# Altium footprint library G103 Rev4.2E.PcbLib: 64 footprints (part 3 of 4)
Each footprint in its own frame and in the unit in brackets; x right, y up, seen from the top. Pads: shape width x height; smd on the part's side, far side on the other; paste and mask are expansions set on the pad; w line width, h text height; cw(c..) or ccw(c..) is an arc to the next point about the centre after c.
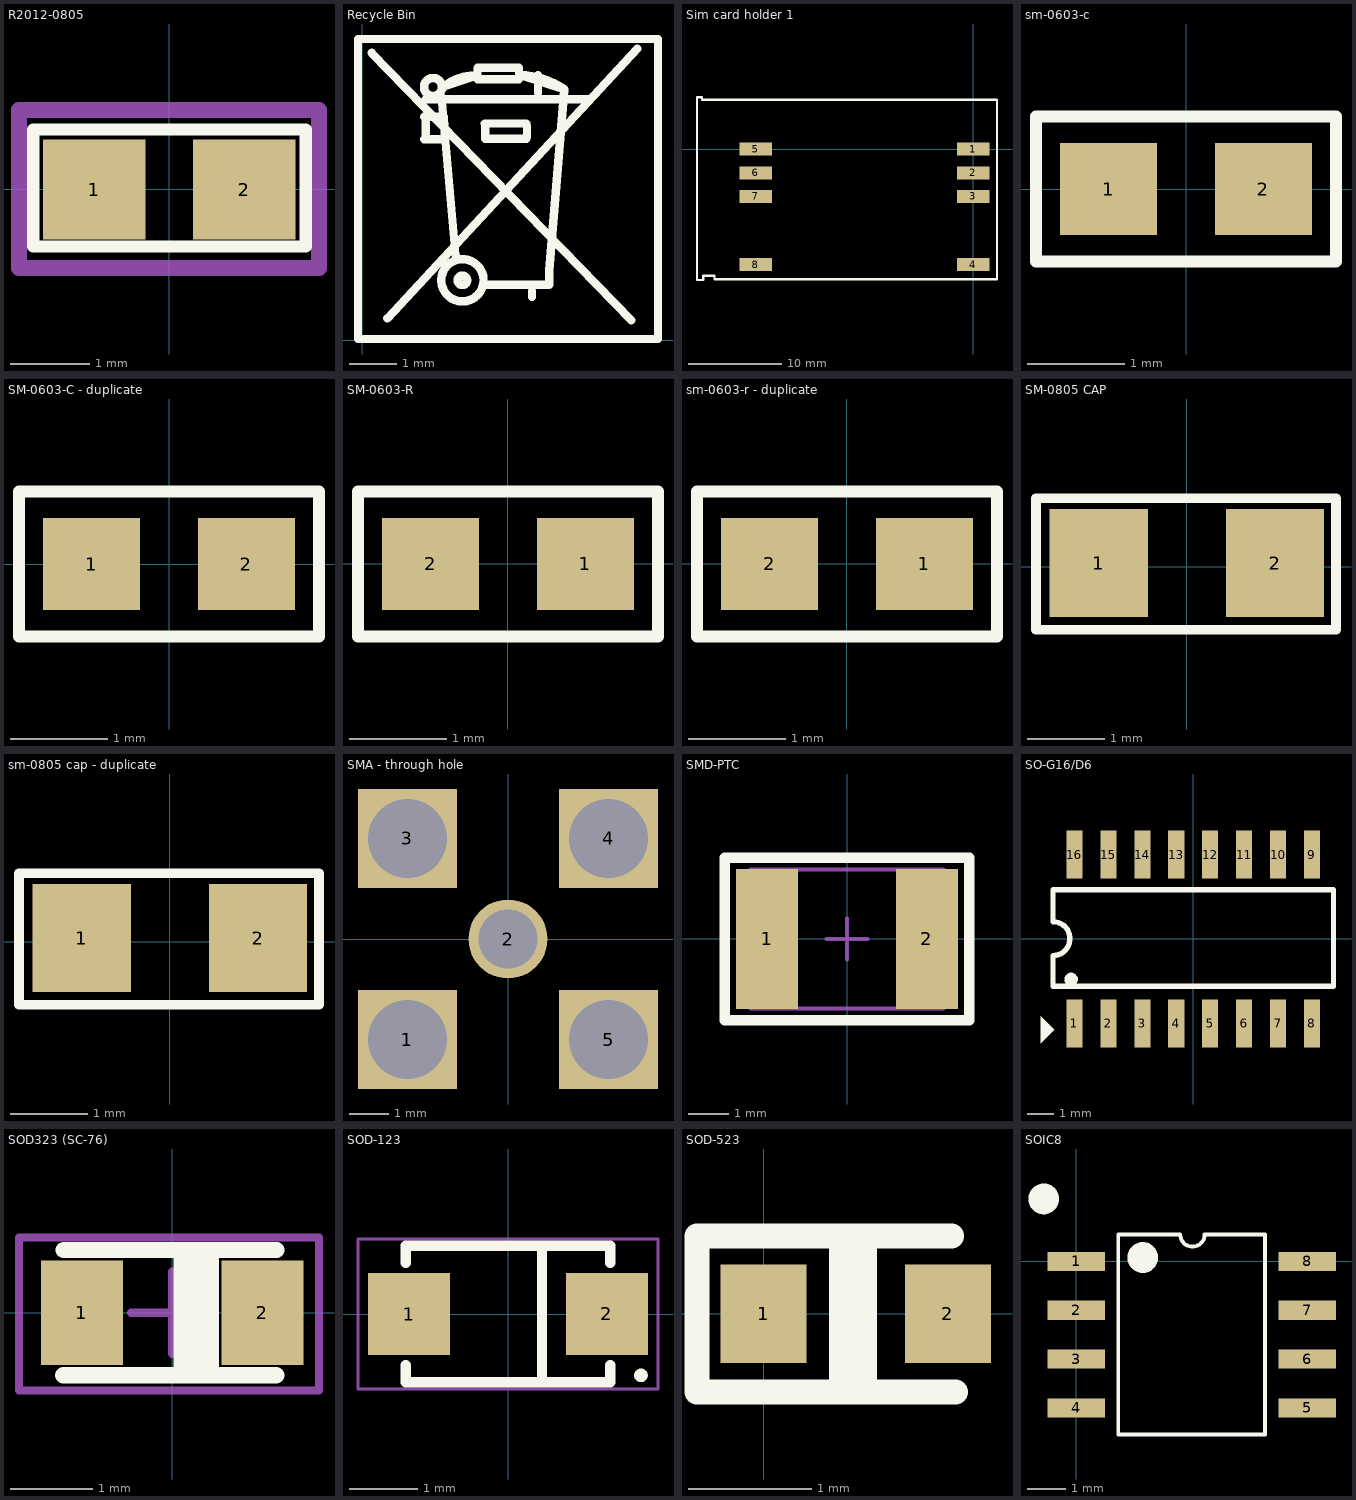
[diagram p2: the footprints below, top view; thin cyan lines are the x and y axes]

## R2012-0805 [mm] "Resister Chip 0805 package"
height 0.005
pads (2):
  rect 1.3x1.27 smd: 1(-0.945,-0.007) 2(0.955,-0.007)
Top Overlay:
  lines w0.152: -1.72,-0.731 1.732,-0.731 1.732,0.753 -1.72,0.753 -1.72,-0.731
Mechanical 13:
  lines w0.2: -1.9,-1 -1.7,-1 1.9,-1 1.9,1 -1.9,1 -1.9,-1
  text ".Designator" at -1.524,-0.635 h2.03
3D body: height 0.38, standoff 0, extent -0.381,-0.572 0.381,0.572
3D body: height 0.41, standoff 0, extent 0.381,-0.584 0.889,0.584
3D body: height 0.41, standoff 0, extent -0.889,-0.584 -0.381,0.584

## Recycle Bin [mm]
height 0.005
Top Overlay:
  drawing of 320 lines, arcs and shapes, not listed

## Sim card holder 1 [mm]
height 0.005
pads (8):
  rect 3.5x1.4 smd: 1(0,0) 2(0,-2.54) 3(0,-5.08) 4(0,-12.4) 5(-23.4,0) 6(-23.4,-2.54) 7(-23.4,-5.08) 8(-23.4,-12.4)
Top Overlay:
  lines w0.254: -29.718,-14.072 -29.718,-12.395 ; -29.718,-12.522 -29.718,5.588 -29.185,5.588 -29.185,5.334 -27.229,5.334 2.54,5.334 2.54,-13.97 -27.838,-13.97 -27.838,-13.64 ; -29.667,-14.072 -29.058,-14.072 -29.032,-14.046 -29.032,-13.614 -27.864,-13.614
3D body "SIMLOCK-1.STEP": height 2.5, standoff 0, extent -28.208,-12.446 1.792,4.854

## sm-0603-c [mm] "Chip Resistor, 2-Leads, Body 1.60x0.80mm, IPC Medium Density"
height 0.6
pads (2):
  rect 1x0.95 smd: 1(-0.8,0) 2(0.8,0)
Top Overlay:
  lines w0.127: -1.55,-0.75 1.55,-0.75 1.55,0.75 -1.55,0.75 -1.55,-0.75
3D body "User Library-SMD CAPACITOR.step": height 0.8, standoff 0, extent -0.8,-0.4 0.8,0.4

## SM-0603-C - duplicate [mm]
pads (2):
  rect 1x0.95 smd: 1(-0.8,0) 2(0.8,0)
Top Overlay:
  lines w0.127: -1.55,-0.75 -1.55,0.75 1.55,0.75 1.55,-0.75 -1.55,-0.75
3D body "User Library-SMD CAPACITOR.step": height 0.8, standoff 0, extent -0.8,-0.4 0.8,0.4

## SM-0603-R [mm] "Chip Resistor, 2-Leads, Body 1.60x0.80mm, IPC Medium Density"
height 0.6
pads (2):
  rect 1x0.95 smd: 1(0.8,0) 2(-0.8,0)
Top Overlay:
  lines w0.127: -1.55,-0.75 1.55,-0.75 1.55,0.75 -1.55,0.75 -1.55,-0.75
3D body "User Library-Panasonic0603.step": height 0.45, standoff 0, extent -0.8,-0.41 0.8,0.41

## sm-0603-r - duplicate [mm]
pads (2):
  rect 1x0.95 smd: 1(0.8,0) 2(-0.8,0)
Top Overlay:
  lines w0.127: -1.55,-0.75 -1.55,0.75 1.55,0.75 1.55,-0.75 -1.55,-0.75
3D body "User Library-Panasonic0603.step": height 0.45, standoff 0, extent -0.8,-0.41 0.8,0.41

## SM-0805 CAP [mil]
height 0.2
pads (2):
  rect 50x55 smd: 1(-45,2) 2(45,2)
Top Overlay:
  lines w5: -77,-32 76,-32 76,35 -77,35 -77,-32
3D body "SW3dPS-smt_resistor_packages.STEP": height 24.02, standoff -0.39, extent -39.76,-23 39.76,27

## sm-0805 cap - duplicate [mil]
pads (2):
  rect 50x55 smd: 1(-45,2) 2(45,2)
Top Overlay:
  lines w5: -77,-32 76,-32 76,35 -77,35 -77,-32
3D body "SW3dPS-smt_resistor_packages.STEP": height 24.02, standoff -0.39, extent -39.76,-23 39.76,27

## SMA - through hole [mm]
height 0.005
pads (5):
  rect 2.5x2.5 hole 2: 1(-2.54,-2.54) 3(-2.54,2.54) 4(2.54,2.54) 5(2.54,-2.54)
  round 2 hole 1.5: 2(0,0)
3D body "SMA-J-P-H-ST-TH1.STEP": height 11.6, standoff -1.87, extent -3.556,-3.5 3.444,3.5

## SMD-PTC [mm]
height 0.7
pads (2):
  rect 1.52x3.44 smd: 1(-1.965,0) 2(1.965,0)
Top Overlay:
  lines w0.254: -3,-2 -3,2 3,2 3,-2 -3,-2
Mechanical 13:
  lines w0.1: -2.365,-1.705 -2.365,1.705 2.365,1.705 2.365,-1.705 -2.365,-1.705
Mechanical 15:
  lines w0.1: -0.5,0 0.5,0 ; 0,-0.5 0,0.5
3D body: height 0.7, standoff 0, extent -2.065,-1.705 2.065,1.705
3D body: height 0.7, standoff 0, extent -2.365,-1.705 -2.065,1.705
3D body: height 0.7, standoff 0, extent 2.065,-1.705 2.365,1.705

## SO-G16/D6 [mm] "Small Outline; 16 Leads; Body Width 5.3 mm; Pitch 1.27 mm"
height 2
pads (16):
  rect 0.6x1.8 smd: 1(-4.445,-3.168) 2(-3.175,-3.168) 3(-1.905,-3.168) 4(-0.635,-3.168) 5(0.635,-3.168) 6(1.905,-3.168) 7(3.175,-3.168) 8(4.445,-3.168) 9(4.445,3.143) 10(3.175,3.143) 11(1.905,3.143) 12(0.635,3.143) 13(-0.635,3.143) 14(-1.905,3.143) 15(-3.175,3.143) 16(-4.445,3.143)
Top Overlay:
  circle w0.25: c-4.57,-1.524 r0.125
  region: -5.715,-3.912 -5.207,-3.404 -5.715,-2.896
  lines w0.2: -5.25,-1.778 5.25,-1.778 5.25,1.829 -5.25,1.829 -5.25,0.635 cw(c-5.25,0) -5.25,-0.635 -5.25,-1.778
3D body "User Library-so16-1.step": height 1.76, standoff 0, extent -4.985,-3.068 4.985,3.069

## SOD323 (SC-76) [mm] "SOD323 (SC-76), 2-Leads, Body 2.7x1.35mm"
height 1.1
pads (2):
  rect 1x1.27 smd: 1(-1.1,0) 2(1.1,0)
Top Overlay:
  rectangle: 0.019,-0.762 0.569,0.713
  lines w0.2: -1.321,0.766 1.274,0.766
  lines w0.203: -1.325,-0.764 1.27,-0.764
Mechanical 13:
  text ".Designator" at -1.524,-0.635 h2.03
Mechanical 15:
  lines w0.1: -0.5,0 0.5,0 ; 0,-0.5 0,0.5 ; -1.868,-0.947 1.792,-0.947 1.792,0.917 -1.868,0.917 -1.868,-0.947
3D body "SOD323.STEP": height 0.9, standoff -0.09, extent -1.243,-0.663 1.257,0.587

## SOD-123 [mm]
height 1.1
pads (2):
  rect 1.2x1.2 smd: 1(-1.45,0) 2(1.45,0)
Top Overlay:
  circle w0.1: c1.95,-0.9 r0.05
  lines w0.15: -1.5,-0.75 -1.5,-1 1.5,-1 1.5,-0.75 ; -1.5,0.75 -1.5,1 1.5,1 1.5,0.75 ; 0.5,-1 0.5,1
Mechanical 15:
  lines w0.05: -2.2,-1.1 2.2,-1.1 2.2,1.1 -2.2,1.1 -2.2,-1.1
3D body "User Library-SOD3716X14.step": height 1.35, standoff 0, extent -1.85,-0.775 1.85,0.775

## SOD-523 [mm] "Small and Thin SMD package 2mmx1mm"
height 1
pads (2):
  rect 0.7x0.8 smd: 1(0,0) 2(1.5,0)
Top Overlay:
  lines w0.2: 1.533,0.632 -0.541,0.632 -0.541,-0.637 1.562,-0.637
  lines w0.254: 0.662,-0.578 0.662,0.558 ; 0.798,-0.589 0.798,0.514
3D body "SOD-523F.STEP": height 0.7, standoff 0, extent -0.068,-0.417 1.532,0.381

## SOIC8 [mm]
height 0.005
pads (8):
  rect 1.5x0.5 smd: 1(0,0) 2(0,-1.27) 3(0,-2.54) 4(0,-3.81) 5(6,-3.81) 6(6,-2.54) 7(6,-1.27) 8(6,0)
Top Overlay:
  circle w0.4: c-0.85,1.625 r0.2
  circle w0.4: c1.725,0.1 r0.2
  lines w0.1: 1.09,-4.5 1.09,0.7 ; 1.1,-4.5 4.9,-4.5 4.9,0.7 3.335,0.7 cw(c3.017,0.7) 2.7,0.7 1.1,0.7
Mechanical 13:
  text ".Designator" at 3.531,-4.216 h2.03
3D body "SOIC8.STEP": height 1.7, standoff 0, extent -0.079,-4.392 5.921,0.508